# EAGLE library part 6180XX25023_61800925023 (library Wurth_Connectors_WR-DSUB)
WR-DSUB Male PCB Connector Kind Properties Quality Class:3 as per IEC 60 603-13 Gender:Male Type:Straight Insulator Material:PBT Insulator Flammability Rating:UL94 V-0 Color:White Contact Material:Copper Alloy Contact Plating:Gold Contact Type:Stamped Shielding Material:Steel Shielding Plating:Tin General Information Operating Temperature:-55 up to +105 °C Compliance:RoHS Electrical Properties IR1:3 A Working Voltage:125 V (AC) Withstanding Voltage:1000 V (AC) Contact Resistance:30 mΩ <https://www.we-online.com/catalog/media/o33086v209%20Family_I-O_DSUB_PCB_Male_6180xx25023_pf2.jpg> Details see: https://www.we-online.com/catalog/en/DSUB_MALE_PCB_CONNECTOR_6180XX25023/ Updated by Yingchun, Shan 2020-01-08 2020 (C) Würth Elektronik
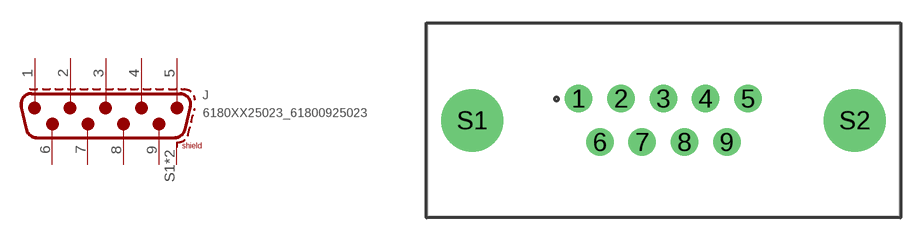
[diagram p32: symbol with the pads of 61800925023; footprint 61800925023]

Designator prefix J

## 6180XX25023_61800925023 (DATASHEET-URL: https://www.we-online.com/redexpert/spec/61800925023?ae; GENDER: Male; PART-NUMBER: 61800925023; PINS: 9; TYPE: Straight; VALUE: 61800925023; WE-NUMBER: 61800925023; WORKING-VOLTAGE: 125 V(AC))  [61800925023]
1  1
2  2
3  3
4  4
5  5
6  6
7  7
8  8
9  9
S1  SHIELD
S2  SHIELD

## Footprint 61800925023 (pad centres in mm)
WR-DSUB Male PCB Connector, 9 Pins
drill 1.2: 1 -5.55,1.42; 2 -2.78,1.42; 3 -0.01,1.42; 4 2.76,1.42; 5 5.53,1.42; 6 -4.165,-1.42; 7 -1.395,-1.42; 8 1.375,-1.42; 9 4.145,-1.42
drill 3.05: S1 -12.5,0; S2 12.5,0